# Altium schematic symbol library M12.SchLib: 4 symbols
Pins are listed as number, name and electrical type; pins without a type are passive.

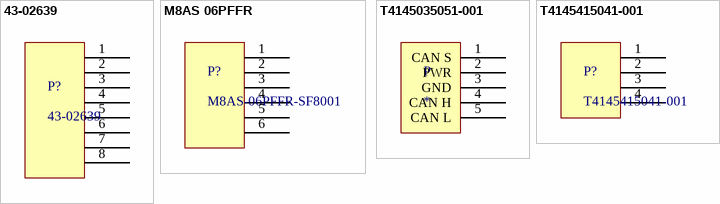
[diagram p0: symbols 43-02639 to T4145415041-001]

## 43-02639
designator P?
M12, 8 Pin Connector
pins: 1 0, 2, 3, 4, 5, 6, 7, 8

## M8AS 06PFFR
designator P?, comment M8AS-06PFFR-SF8001
M8, 6 Pin PCB Mount Connector
pins: 1 0, 2, 3, 4, 5, 6

## T4145035051-001
designator P
M12 NMEA 2000 Header
pins: 1 CAN S, 2 PWR, 3 GND, 4 CAN H, 5 CAN L

## T4145415041-001
designator P?
M12 4-Pin PCB Header
pins: 1 0, 2, 3, 4